# Altium schematic symbol library LNK302PN.Schlib: 1 symbol
Pins are listed as number, name and electrical type; pins without a type are passive.

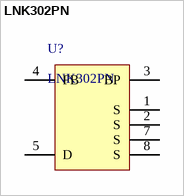
[diagram p0: symbol LNK302PN]

## LNK302PN
designator U?
Converter Offline Buck, Buck-Boost, Flyback Topology 66kHz DIP-8B
pins: 1 S, 2 S, 3 BP, 4 FB, 5 D, 7 S, 8 S